# Altium schematic symbol library I2C and SMBus switch.SchLib: 1 symbol
Pins are listed as number, name and electrical type; pins without a type are passive.

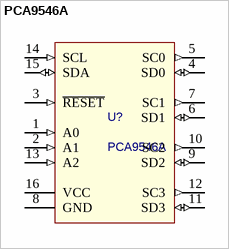
[diagram p0: symbol PCA9546A]

## PCA9546A
designator U?
Low voltage 4-channel i2C and SMBus switch driver with reset function.; Manufacture: Texas Instruments; Part number: PCA9546APW
footprint TSSOP16
pins: 1 A0 (in) "Address input 0. Connect directly to Vcc or GND.", 2 A1 (in) "Address input 1. Connect directly to Vcc or GND.", 3 ~{RESET} (in) "Active low reset input. Connect to Vdpum (master pull-up) throught a pull-up resistor, if not used.", 4 SD0 (io) "Serial data 0. Connect to Vdpu0 throught a pull-up resistor.", 5 SC0 (out) "Serial clock 0. Connect to Vdpu0 throught a pull-up resistor.", 6 SD1 (io) "Serial data 1. Connect to Vdpu1 throught a pull-up resistor.", 7 SC1 (out) "Serial clock 1. Connect to Vdpu1 throught a pull-up resistor.", 8 GND (power) "Ground.", 9 SD2 (io) "Serial data 2. Connect to Vdpu2 throught a pull-up resistor.", 10 SC2 (out) "Serial clock 2. Connect to Vdpu2 throught a pull-up resistor.", 11 SD3 (io) "Serial data 3. Connect to Vdpu3 throught a pull-up resistor.", 12 SC3 (out) "Serial clock 3. Connect to Vdpu3 throught a pull-up resistor.", 13 A2 (in) "Address input 3. Connect directly to Vcc or GND.", 14 SCL (in) "Serial clock line. Connect to Vdpu throught a pull-up resistor.", 15 SDA (io) "Serial data line. Connect to Vdpu throught a pull-up resistor.", 16 VCC (power) "Supply power."